# EAGLE library part 750370288 (library Eagle_WE-OLEE (rev23a))
WE-OLEE EE-Style Offline Flyback Transformers Characteristics Switching Frequency 50-150kHz Low real estate Extended Rails Reinforced Insulation IEC60950-1, EN60950-1, UL60950-1/CSA60950-1 and AS/NZS60950.1 Operating Temp: -40°C to +125°C Applications Offline Switching Power Power Electronics Electronic Ballasts White Goods Industrial Controls Industrial Telecom Metering LED Lighting <https://www.we-online.com/catalog/media/o32894v209%20Family_MID-OLEE.jpg> Details see: www.we-online.com/en/components/products/WE-OLEE Created by Ella Wu 2023-04-11 2023 (C) Wurth Elektronik
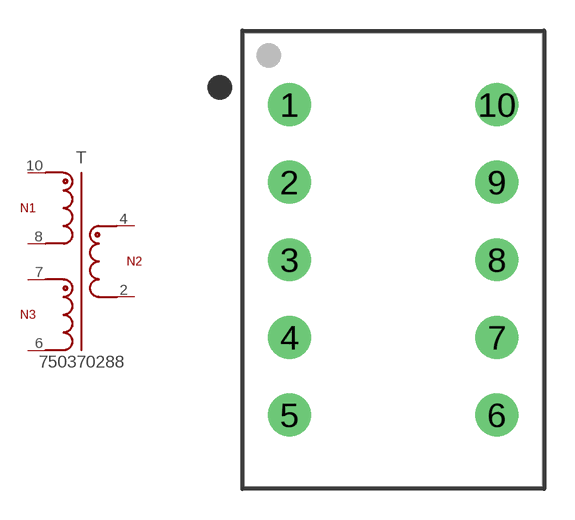
[diagram p20: symbol with the pads of WE-OLEE_EE20/10/6; footprint WE-OLEE_EE20/10/6]

Designator prefix T

## 750370288 (DATASHEET-URL: https://www.we-online.com/redexpert/spec/750370288?ae; F-SWTICH: 65kHz; HEIGHT: 23.24mm; IOUT1: 1A; ISAT1: 1050mA; L1: 1.7mH; LENGTH: 22.25mm; MOUNT: THT; N: 16.88:1:1.88; PART-NUMBER: 750370288; VALUE: 750370288; VAUX: 17V; VIN: 85 - 265 V (AC); VOUT1: 5V; VT: 3000V (AC); WIDTH: 14.4mm)  [WE-OLEE_EE20/10/6]
2  2  pas
4  4  pas
6  6  pas
7  7  pas
8  8  pas
10  10  pas

## Footprint WE-OLEE_EE20/10/6 (pad centres in mm)
WE-OLEE EE-Style Offline Flyback Transformers Size: EE13/6/6,THT,9pins LXWXH=22.25X14.4X23.24mm
drill 1.4: 1 -5.08,7.6; 2 -5.08,3.8; 3 -5.08,0; 4 -5.08,-3.8; 5 -5.08,-7.6; 6 5.08,-7.6; 7 5.08,-3.8; 8 5.08,0; 9 5.08,3.8; 10 5.08,7.6